# Altium schematic symbol library K06MC07B.SchLib: 1 symbol
Pins are listed as number, name and electrical type; pins without a type are passive.

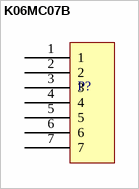
[diagram p0: symbol K06MC07B]

## K06MC07B
designator P?
DGDTE Battery Connector ,Male - 7 Pin
pins: 1, 2, 3, 4, 5, 6, 7